# Altium footprint library SamacSys.PcbLib: 19 footprints (part 1 of 2)
Each footprint in its own frame and in the unit in brackets; x right, y up, seen from the top. Pads: shape width x height; smd on the part's side, far side on the other; paste and mask are expansions set on the pad; w line width, h text height; cw(c..) or ccw(c..) is an arc to the next point about the centre after c.
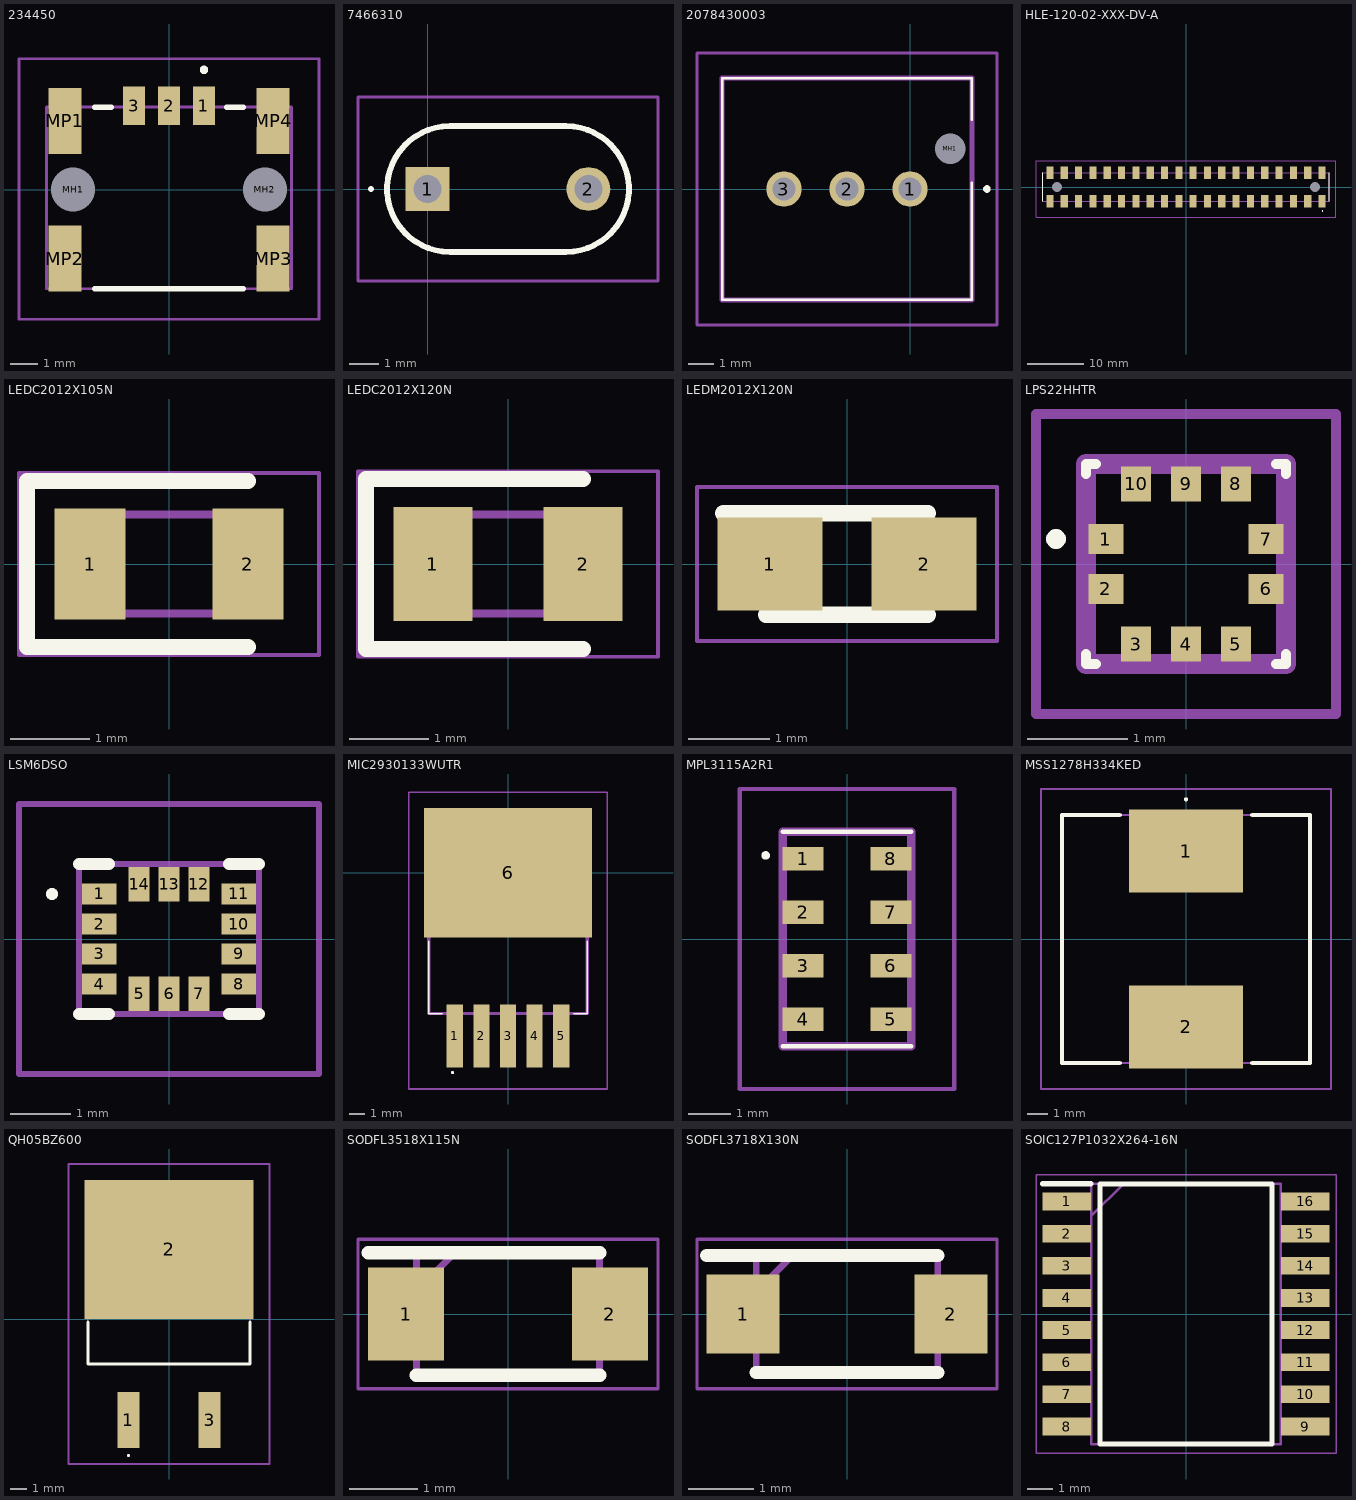
[diagram p0: the footprints below, top view; thin cyan lines are the x and y axes]

## 234450 [mm]
pads (9):
  rect 0.8x1.4 smd: 1(1.27,3.05) 2(0,3.05) 3(-1.27,3.05)
  round 0.8 hole 1.6 unplated: MH1(-3.48,0) MH2(3.48,0)
  rect 1.2x2.4 smd: MP1(-3.78,2.5) MP2(-3.78,-2.5) MP3(3.78,-2.5) MP4(3.78,2.5)
Top Overlay:
  lines w0.2: -2.7,-3.6 2.7,-3.6 ; -2.7,3 -2.1,3 ; 2.1,3 2.7,3 ; 1.27,4.3 ccw(c1.27,4.35) 1.27,4.4 ; 1.27,4.3 cw(c1.27,4.35) 1.27,4.4 ; 1.27,4.3 1.27,4.4
Mechanical 13:
  lines w0.1: -4.445,-3.6 -4.445,3 4.445,3 4.445,-3.6 -4.445,-3.6
Mechanical 15:
  lines w0.1: -5.445,-4.7 -5.445,4.75 5.445,4.75 5.445,-4.7 -5.445,-4.7
3D body "234450.stp": height 2.97, standoff -0.76, extent -4.445,-3.57 4.445,3.63

## 7466310 [mm]
pads (2):
  rect 1.509x1.509 hole 0.97: 1(0,0)
  round 1.509 hole 0.97: 2(5.54,0)
Top Overlay:
  lines w0.1: -2,0 ccw(c-1.95,0) -1.9,0 ccw(c-1.95,0) -2,0
  lines w0.2: 0.77,-2.165 cw(c0.77,0) 0.77,2.165 4.77,2.165 cw(c4.77,0) 4.77,-2.165 0.77,-2.165
Mechanical 13:
  lines w0.1: 0.77,-2.165 cw(c0.77,0) 0.77,2.165 4.77,2.165 cw(c4.77,0) 4.77,-2.165 0.77,-2.165
Mechanical 15:
  lines w0.1: -2.395,-3.165 7.935,-3.165 7.935,3.165 -2.395,3.165 -2.395,-3.165
3D body "7466310.stp": height 7.1, standoff -5, extent -1.383,-2.165 6.923,2.165

## 2078430003 [mm]
pads (4):
  round 1.4 hole 0.9: 1(0,0) 2(-2.5,0) 3(-5,0)
  round 0.6 hole 1.2 unplated: MH1(1.6,1.6)
Top Overlay:
  lines w0.1: -7.45,-4.395 2.45,-4.395 ; -7.45,-4.395 2.45,-4.395 ; -7.45,-4.395 -7.45,4.395 ; -7.45,-4.395 -7.45,4.395 ; -7.45,4.395 2.45,4.395 ; -7.45,4.395 2.45,4.395 ; 2.45,-4.395 2.45,0.25 2.45,-4.395 ; 2.45,4.395 2.45,2.75 2.45,4.395
  lines w0.2: 3,0 cw(c3.05,0) 3.1,0 ; 3,0 ccw(c3.05,0) 3.1,0 ; 3,0 cw(c3.05,0) 3.1,0
Mechanical 13:
  lines w0.2: -7.45,-4.395 2.45,-4.395 2.45,4.395 -7.45,4.395 -7.45,-4.395
Mechanical 15:
  lines w0.1: -8.45,-5.395 3.45,-5.395 3.45,5.395 -8.45,5.395 -8.45,-5.395
3D body "207843-0003.stp": height 8.54, standoff -3.46, extent -7.44,-4.2 2.48,4.2

## HLE-120-02-XXX-DV-A [mm]
pads (42):
  rect 1.27x2.29 smd: 1(24.13,-2.525) 2(24.13,2.525) 3(21.59,-2.525) 4(21.59,2.525) 5(19.05,-2.525) 6(19.05,2.525) 7(16.51,-2.525) 8(16.51,2.525) 9(13.97,-2.525) 10(13.97,2.525) 11(11.43,-2.525) 12(11.43,2.525) 13(8.89,-2.525) 14(8.89,2.525) 15(6.35,-2.525) 16(6.35,2.525) 17(3.81,-2.525) 18(3.81,2.525) 19(1.27,-2.525) 20(1.27,2.525) 21(-1.27,-2.525) 22(-1.27,2.525) 23(-3.81,-2.525) 24(-3.81,2.525) 25(-6.35,-2.525) 26(-6.35,2.525) 27(-8.89,-2.525) 28(-8.89,2.525) 29(-11.43,-2.525) 30(-11.43,2.525) 31(-13.97,-2.525) 32(-13.97,2.525) 33(-16.51,-2.525) 34(-16.51,2.525) 35(-19.05,-2.525) 36(-19.05,2.525) 37(-21.59,-2.525) 38(-21.59,2.525) 39(-24.13,-2.525) 40(-24.13,2.525)
  round 0.89 hole 1.78 unplated: 41(22.86,0) 42(-22.86,0)
Top Overlay:
  circle w0.2: c24.18,-4.275 r0.05
  lines w0.1: -25.4,-2.54 -25.4,2.54 ; 25.4,-2.54 25.4,2.54
Mechanical 13:
  lines w0.2: -25.4,-2.54 -25.4,2.54 25.4,2.54 25.4,-2.54 -25.4,-2.54
Mechanical 15:
  lines w0.05: -26.6,-5.375 -26.6,4.67 26.6,4.67 26.6,-5.375 -26.6,-5.375

## LEDC2012X105N [mm]
pads (2):
  rect 0.9x1.4 smd: 1(-1,0) 2(1,0)
Top Overlay:
  lines w0.2: 1,-1.05 -1.8,-1.05 -1.8,1.05 1,1.05
Mechanical 13:
  lines w0.1: -1,0.208 -0.583,0.625 ; -1,-0.625 1,-0.625 1,0.625 -1,0.625 -1,-0.625
Mechanical 15:
  lines w0.05: -1.9,-1.15 1.9,-1.15 1.9,1.15 -1.9,1.15 -1.9,-1.15
3D body "APTD2012LZGCK.stp": height 1.05, standoff 0, extent -1.03,-0.625 0.97,0.625

## LEDC2012X120N [mm]
pads (2):
  rect 1x1.45 smd: 1(-0.95,0) 2(0.95,0)
Top Overlay:
  lines w0.2: 0.95,-1.075 -1.8,-1.075 -1.8,1.075 0.95,1.075
Mechanical 13:
  lines w0.1: -1,0.208 -0.583,0.625 ; -1,-0.625 -1,0.625 1,0.625 1,-0.625 -1,-0.625
Mechanical 15:
  lines w0.05: -1.9,-1.175 -1.9,1.175 1.9,1.175 1.9,-1.175 -1.9,-1.175
3D body "APTD2012LQBC_D.stp": height 0.99, standoff -0.06, extent -1,-0.635 1,0.615

## LEDM2012X120N [mm]
pads (2):
  rect 1.3x1.15 smd: 1(-0.95,0) 2(0.95,0)
Top Overlay:
  lines w0.2: -1.525,0.625 1,0.625 ; -1,-0.625 1,-0.625
Mechanical 13:
  lines w0.1: -1,0.05 -0.425,0.625 ; -1,-0.625 -1,0.625 1,0.625 1,-0.625 -1,-0.625
Mechanical 15:
  lines w0.05: -1.85,-0.95 -1.85,0.95 1.85,0.95 1.85,-0.95 -1.85,-0.95
3D body "APTD2012LSURCK.stp": height 1.05, standoff 0, extent -1,-0.625 1,0.625

## LPS22HHTR [mm]
pads (10):
  rect 0.35x0.3 smd: 1(-0.8,0.25) 2(-0.8,-0.25) 6(0.8,-0.25) 7(0.8,0.25)
  rect 0.3x0.35 smd: 3(-0.5,-0.8) 4(0,-0.8) 5(0.5,-0.8) 8(0.5,0.8) 9(0,0.8) 10(-0.5,0.8)
Top Overlay:
  lines w0.1: -1,-0.9 -1,-1 -0.9,-1 ; -1,0.9 -1,1 -0.9,1 ; 0.9,-1 1,-1 1,-0.9 ; 0.9,1 1,1 1,0.9 ; -1.3,0.2 cw(c-1.3,0.25) -1.3,0.3 cw(c-1.3,0.25) -1.3,0.2
Mechanical 13:
  lines w0.2: -1,-1 1,-1 1,1 -1,1 -1,-1
Mechanical 15:
  lines w0.1: -1.5,-1.5 1.5,-1.5 1.5,1.5 -1.5,1.5 -1.5,-1.5
3D body "LPS22HHTR.stp": height 0.8, standoff 0, extent -1,-1 1,1

## LSM6DSO [mm]
pads (14):
  rect 0.575x0.35 smd: 1(-1.163,0.75) 2(-1.163,0.25) 3(-1.163,-0.25) 4(-1.163,-0.75) 8(1.163,-0.75) 9(1.163,-0.25) 10(1.163,0.25) 11(1.163,0.75)
  rect 0.35x0.575 smd: 5(-0.5,-0.913) 6(0,-0.913) 7(0.5,-0.913) 12(0.5,0.913) 13(0,0.913) 14(-0.5,0.913)
Top Overlay:
  lines w0.1: -2,0.75 ccw(c-1.95,0.75) -1.9,0.75 ccw(c-1.95,0.75) -2,0.75
  lines w0.2: -1.5,-1.25 -1,-1.25 ; -1.5,1.25 -1,1.25 ; 1,-1.25 1.5,-1.25 ; 1,1.25 1.5,1.25
Mechanical 13:
  lines w0.1: -1.5,-1.25 -1.5,1.25 1.5,1.25 1.5,-1.25 -1.5,-1.25
Mechanical 15:
  lines w0.1: -2.5,-2.25 -2.5,2.25 2.5,2.25 2.5,-2.25 -2.5,-2.25
3D body "LSM6DSO.stp": height 0.87, standoff 0, extent -1.549,-1.295 1.549,1.295

## MIC2930133WUTR [mm]
pads (6):
  rect 1.041x4.038 smd: 1(-3.404,-10.452) 2(-1.702,-10.452) 3(0,-10.452) 4(1.702,-10.452) 5(3.404,-10.452)
  rect 10.744x8.306 smd: 6(0,0)
Top Overlay:
  lines w0.1: -5.08,-4.4 -5.08,-9.017 -4.2,-9.017 ; 4.2,-9.017 5.08,-9.017 5.08,-4.4 ; -3.6,-12.8 cw(c-3.55,-12.8) -3.5,-12.8 cw(c-3.55,-12.8) -3.6,-12.8
Mechanical 13:
  lines w0.2: -5.08,-9.017 -5.08,0 5.08,0 5.08,-9.017 -5.08,-9.017
Mechanical 15:
  lines w0.1: -6.372,-13.85 -6.372,5.153 6.372,5.153 6.372,-13.85 -6.372,-13.85
3D body "MIC29301-3.3WU-TR.stp": height 5.18, standoff 0, extent -5.08,-9.017 5.08,0

## MPL3115A2R1 [mm]
pads (8):
  rect 0.95x0.55 smd: 1(-1.025,1.875) 2(-1.025,0.625) 3(-1.025,-0.625) 4(-1.025,-1.875) 5(1.025,-1.875) 6(1.025,-0.625) 7(1.025,0.625) 8(1.025,1.875)
Top Overlay:
  lines w0.1: -1.5,-2.5 1.5,-2.5 ; -1.5,2.5 1.5,2.5 ; -1.9,1.9 cw(c-1.9,1.95) -1.9,2 cw(c-1.9,1.95) -1.9,1.9
Mechanical 13:
  lines w0.2: -1.5,-2.5 -1.5,2.5 1.5,2.5 1.5,-2.5 -1.5,-2.5
Mechanical 15:
  lines w0.1: -2.5,-3.5 -2.5,3.5 2.5,3.5 2.5,-3.5 -2.5,-3.5
3D body "MPL3115A2R1.stp": height 1.3, standoff 0, extent -1.5,-2.5 1.5,2.5

## MSS1278H334KED [mm]
pads (2):
  rect 5.5x4 smd: 1(0,4.25) 2(0,-4.25)
Top Overlay:
  lines w0.1: 0,6.7 ccw(c0,6.75) 0,6.8 ccw(c0,6.75) 0,6.7
  lines w0.2: -3.2,-6 -6,-6 -6,6 -3.2,6 ; 3.2,-6 6,-6 6,6 3.2,6
Mechanical 13:
  lines w0.1: -6,-6 -6,6 6,6 6,-6 -6,-6
Mechanical 15:
  lines w0.1: -7,-7.25 -7,7.25 7,7.25 7,-7.25 -7,-7.25
3D body "MSS1278H-334KED.stp": height 8.15, standoff 0, extent -6,-6 6,6

## QH05BZ600 [mm]
pads (3):
  rect 1.4x3.5 smd: 1(-2.54,-6.332) 3(2.54,-6.332)
  rect 10.6x8.7 smd: 2(0,4.367)
Top Overlay:
  lines w0.1: -2.54,-8.6 ccw(c-2.54,-8.55) -2.54,-8.5 ccw(c-2.54,-8.55) -2.54,-8.6
  lines w0.2: -5.08,-0.2 -5.08,-2.8 5.08,-2.818 5.08,-0.2
Mechanical 13:
  lines w0.1: -5.08,-2.818 -5.08,6.332 5.08,6.332 5.08,-2.818 -5.08,-2.818
Mechanical 15:
  lines w0.1: -6.3,-9.082 -6.3,9.717 6.3,9.717 6.3,-9.082 -6.3,-9.082

## SODFL3518X115N [mm]
pads (2):
  rect 1.12x1.37 smd: 1(-1.5,0) 2(1.5,0)
Top Overlay:
  lines w0.2: -2.06,0.9 1.35,0.9 ; -1.35,-0.9 1.35,-0.9
Mechanical 13:
  lines w0.1: -1.35,0.34 -0.79,0.9 ; -1.35,-0.9 1.35,-0.9 1.35,0.9 -1.35,0.9 -1.35,-0.9
Mechanical 15:
  lines w0.05: -2.21,-1.1 2.21,-1.1 2.21,1.1 -2.21,1.1 -2.21,-1.1
3D body "SBR3U40S1F-7.stp": height 1.15, standoff 0, extent -1.75,-0.9 1.75,0.9

## SODFL3718X130N [mm]
pads (2):
  rect 1.12x1.22 smd: 1(-1.6,0) 2(1.6,0)
Top Overlay:
  lines w0.2: -2.16,0.9 1.4,0.9 ; -1.4,-0.9 1.4,-0.9
Mechanical 13:
  lines w0.1: -1.4,0.34 -0.84,0.9 ; -1.4,-0.9 1.4,-0.9 1.4,0.9 -1.4,0.9 -1.4,-0.9
Mechanical 15:
  lines w0.05: -2.31,-1.15 2.31,-1.15 2.31,1.15 -2.31,1.15 -2.31,-1.15
3D body "SL1J.stp": height 1.3, standoff 0, extent -1.85,-0.9 1.85,0.9

## SOIC127P1032X264-16N [mm]
pads (16):
  rect 1.93x0.7 smd: 1(-4.71,4.445) 2(-4.71,3.175) 3(-4.71,1.905) 4(-4.71,0.635) 5(-4.71,-0.635) 6(-4.71,-1.905) 7(-4.71,-3.175) 8(-4.71,-4.445) 9(4.71,-4.445) 10(4.71,-3.175) 11(4.71,-1.905) 12(4.71,-0.635) 13(4.71,0.635) 14(4.71,1.905) 15(4.71,3.175) 16(4.71,4.445)
Top Overlay:
  lines w0.2: -5.675,5.145 -3.745,5.145 ; -3.395,-5.142 3.395,-5.142 3.395,5.142 -3.395,5.142 -3.395,-5.142
Mechanical 13:
  lines w0.1: -3.745,3.872 -2.475,5.142 ; -3.745,-5.142 3.745,-5.142 3.745,5.142 -3.745,5.142 -3.745,-5.142
Mechanical 15:
  lines w0.05: -5.925,-5.495 5.925,-5.495 5.925,5.495 -5.925,5.495 -5.925,-5.495
3D body "W25N01GVSFIG.stp": height 2.64, standoff 0, extent -5.162,-5.142 5.162,5.142